# Altium footprint library QFN50P700X700X90_HS-49N.PcbLib: 1 footprints
Each footprint in its own frame and in the unit in brackets; x right, y up, seen from the top. Pads: shape width x height; smd on the part's side, far side on the other; paste and mask are expansions set on the pad; w line width, h text height; cw(c..) or ccw(c..) is an arc to the next point about the centre after c.
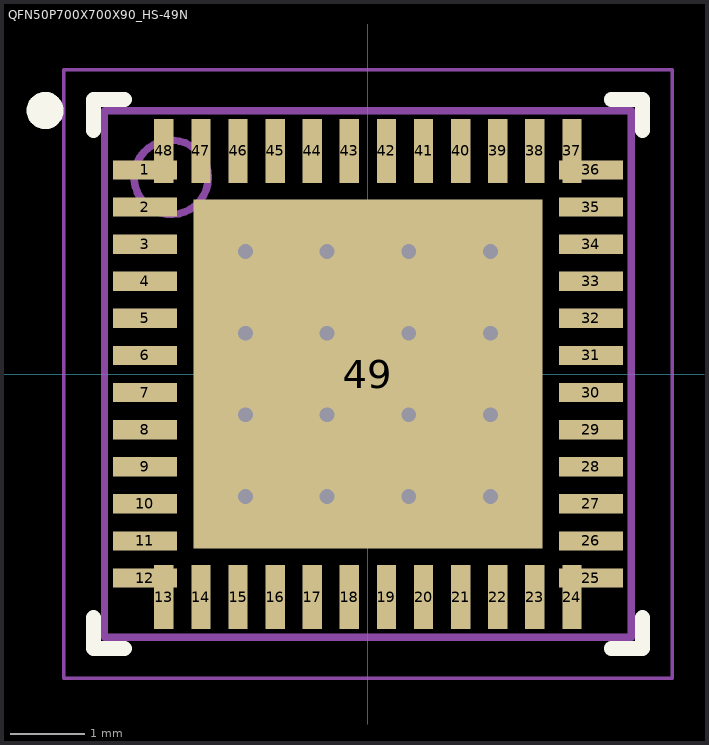
[diagram p0: the footprint, top view; thin cyan lines are the x and y axes]

## QFN50P700X700X90_HS-49N [mm] "QFN, 48-Leads, Body 7.00x7.00mm, Pitch 0.50mm, Thermal Pad 4.70x4.70mm, IPC Medium Density"
height 0.9
pads (49):
  rect 0.86x0.26 smd: 1(-3.005,2.75) 2(-3.005,2.25) 3(-3.005,1.75) 4(-3.005,1.25) 5(-3.005,0.75) 6(-3.005,0.25) 7(-3.005,-0.25) 8(-3.005,-0.75) 9(-3.005,-1.25) 10(-3.005,-1.75) 11(-3.005,-2.25) 12(-3.005,-2.75) 25(3.005,-2.75) 26(3.005,-2.25) 27(3.005,-1.75) 28(3.005,-1.25) 29(3.005,-0.75) 30(3.005,-0.25) 31(3.005,0.25) 32(3.005,0.75) 33(3.005,1.25) 34(3.005,1.75) 35(3.005,2.25) 36(3.005,2.75)
  rect 0.26x0.86 smd: 13(-2.75,-3.005) 14(-2.25,-3.005) 15(-1.75,-3.005) 16(-1.25,-3.005) 17(-0.75,-3.005) 18(-0.25,-3.005) 19(0.25,-3.005) 20(0.75,-3.005) 21(1.25,-3.005) 22(1.75,-3.005) 23(2.25,-3.005) 24(2.75,-3.005) 37(2.75,3.005) 38(2.25,3.005) 39(1.75,3.005) 40(1.25,3.005) 41(0.75,3.005) 42(0.25,3.005) 43(-0.25,3.005) 44(-0.75,3.005) 45(-1.25,3.005) 46(-1.75,3.005) 47(-2.25,3.005) 48(-2.75,3.005)
  rect 4.7x4.7 smd: 49(0,0)
via 1.65,-1.65 diameter 0.5 hole 0.2
via 0.55,-1.65 diameter 0.5 hole 0.2
via -0.55,-1.65 diameter 0.5 hole 0.2
via -1.65,-1.65 diameter 0.5 hole 0.2
via 1.65,-0.55 diameter 0.5 hole 0.2
via 0.55,-0.55 diameter 0.5 hole 0.2
via -0.55,-0.55 diameter 0.5 hole 0.2
via -1.65,-0.55 diameter 0.5 hole 0.2
via 1.65,0.55 diameter 0.5 hole 0.2
via 0.55,0.55 diameter 0.5 hole 0.2
via -0.55,0.55 diameter 0.5 hole 0.2
via -1.65,0.55 diameter 0.5 hole 0.2
via 1.65,1.65 diameter 0.5 hole 0.2
via 0.55,1.65 diameter 0.5 hole 0.2
via -0.55,1.65 diameter 0.5 hole 0.2
via -1.65,1.65 diameter 0.5 hole 0.2
Top Overlay:
  circle w0.25: c-4.35,3.55 r0.125
  lines w0.2: -3.7,-3.28 -3.7,-3.7 -3.28,-3.7 ; -3.7,3.28 -3.7,3.7 -3.28,3.7 ; 3.28,-3.7 3.7,-3.7 3.7,-3.28 ; 3.28,3.7 3.7,3.7 3.7,3.28
Mechanical 13:
  circle w0.1: c-2.65,2.65 r0.5
  lines w0.1: -3.55,-3.55 3.55,-3.55 3.55,3.55 -3.55,3.55 -3.55,-3.55
Mechanical 15:
  lines w0.05: -4.1,-4.1 4.1,-4.1 4.1,4.1 -4.1,4.1 -4.1,-4.1
  lines w0.1: -0.5,0 0.5,0 ; 0,-0.5 0,0.5
3D body: height 0.9, standoff 0, extent -3.55,-3.55 3.55,3.55